# EAGLE library part LM324ANSRG4 (library LM324ANSRG4)
Operational Amplifiers - Op Amps Quad Op Amp Source: Datasheet <https://www.ti.com/lit/ds/symlink/lm324a.pdf?ts=1618982715856&ref_url=https%3A%2F%2Fwww.ti.com%2Fproduct%2FLM324A>
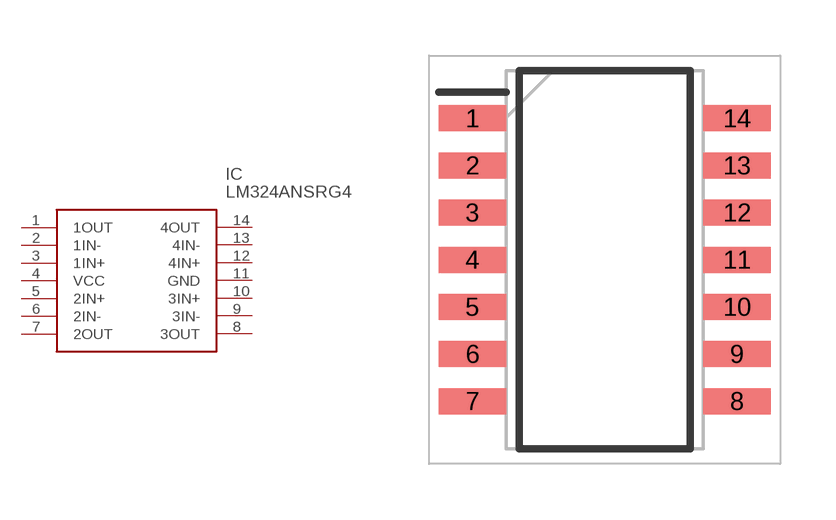
[diagram p0: symbol with the pads of SOIC127P780X200-14N; footprint SOIC127P780X200-14N]

Designator prefix IC

## LM324ANSRG4 (Description: Operational Amplifiers - Op Amps Quad Op Amp; Height: 2mm; Manufacturer_Name: Texas Instruments; Manufacturer_Part_Number: LM324ANSRG4; Mouser_Part_Number: 595-LM324ANSRG4; Mouser_Price-Stock: https://www.mouser.co.uk/ProductDetail/Texas-Instruments/LM324ANSRG4?qs=O7ZcnZfxQnasFrwe49q%2FzA%3D%3D)  [SOIC127P780X200-14N]
1  1OUT
2  1IN-
3  1IN+
4  VCC
5  2IN+
6  2IN-
7  2OUT
8  3OUT
9  3IN-
10  3IN+
11  GND
12  4IN+
13  4IN-
14  4OUT

## Footprint SOIC127P780X200-14N (pad centres in mm)
NS (R-PDSO-G14)
smd 1.825 x 0.7: 1 -3.562,3.81; 2 -3.562,2.54; 3 -3.562,1.27; 4 -3.562,0; 5 -3.562,-1.27; 6 -3.562,-2.54; 7 -3.562,-3.81; 8 3.562,-3.81; 9 3.562,-2.54; 10 3.562,-1.27; 11 3.562,0; 12 3.562,1.27; 13 3.562,2.54; 14 3.562,3.81